# Altium schematic symbol library HF_TOP_CONNECTOR.SchLib: 1 symbol
Pins are listed as number, name and electrical type; pins without a type are passive.

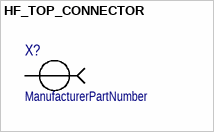
[diagram p0: symbol HF_TOP_CONNECTOR]

## HF_TOP_CONNECTOR
designator X?  (value not drawn)
ManufacturerPartNumber: ManufacturerPartNumber
pins: 1, 2